# EAGLE library part ATUM-HEADER (library atum-le)
Castellated header for the Atum board.
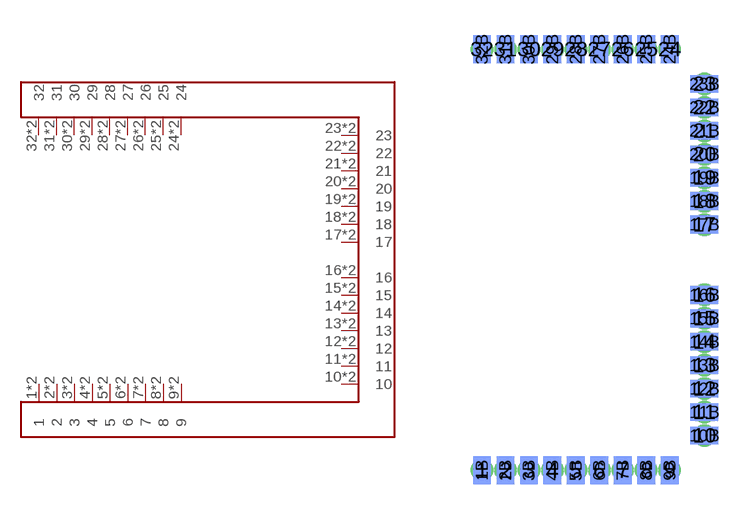
[diagram p0: symbol with the pads of ATUM-HEADER; footprint ATUM-HEADER]

Designator prefix J

## ATUM-HEADER  [ATUM-HEADER]
1  1
1B  1
2  2
2B  2
3  3
3B  3
4  4
4B  4
5  5
5B  5
6  6
6B  6
7  7
7B  7
8  8
8B  8
9  9
9B  9
10  10
10B  10
11  11
11B  11
12  12
12B  12
13  13
13B  13
14  14
14B  14
15  15
15B  15
16  16
16B  16
17  17
17B  17
18  18
18B  18
19  19
19B  19
20  20
20B  20
21  21
21B  21
22  22
22B  22
23  23
23B  23
24  24
24B  24
25  25
25B  25
26  26
26B  26
27  27
27B  27
28  28
28B  28
29  29
29B  29
30  30
30B  30
31  31
31B  31
32  32
32B  32

## Footprint ATUM-HEADER (pad centres in mm)
drill 0.45 pad 0.754: 1 -9.479,-8.979; 2 -8.479,-8.979; 3 -7.479,-8.979; 4 -6.479,-8.979; 5 -5.479,-8.979; 6 -4.479,-8.979; 7 -3.479,-8.979; 8 -2.479,-8.979; 9 -1.479,-8.979; 10 0,-7.5; 11 0,-6.5; 12 0,-5.5; 13 0,-4.5; 14 0,-3.5; 15 0,-2.5; 16 0,-1.5; 17 0,1.5; 18 0,2.5; 19 0,3.5; 20 0,4.5; 21 0,5.5; 22 0,6.5; 23 0,7.5; 24 -1.479,8.979; 25 -2.479,8.979; 26 -3.479,8.979; 27 -4.479,8.979; 28 -5.479,8.979; 29 -6.479,8.979; 30 -7.479,8.979; 31 -8.479,8.979; 32 -9.479,8.979
smd 0.754 x 1.2 bottom: 1B -9.479,-8.979; 2B -8.479,-8.979; 3B -7.479,-8.979; 4B -6.479,-8.979; 5B -5.479,-8.979; 6B -4.479,-8.979; 7B -3.479,-8.979; 8B -2.479,-8.979; 9B -1.479,-8.979; 24B -1.479,8.979; 25B -2.479,8.979; 26B -3.479,8.979; 27B -4.479,8.979; 28B -5.479,8.979; 29B -6.479,8.979; 30B -7.479,8.979; 31B -8.479,8.979; 32B -9.479,8.979
smd 1.2 x 0.754 bottom: 10B 0,-7.5; 11B 0,-6.5; 12B 0,-5.5; 13B 0,-4.5; 14B 0,-3.5; 15B 0,-2.5; 16B 0,-1.5; 17B 0,1.5; 18B 0,2.5; 19B 0,3.5; 20B 0,4.5; 21B 0,5.5; 22B 0,6.5; 23B 0,7.5